# Altium footprint library PCB - POWER - TBA-2-0511.PCBLIB: 1 footprints
Each footprint in its own frame and in the unit in brackets; x right, y up, seen from the top. Pads: shape width x height; smd on the part's side, far side on the other; paste and mask are expansions set on the pad; w line width, h text height; cw(c..) or ccw(c..) is an arc to the next point about the centre after c.
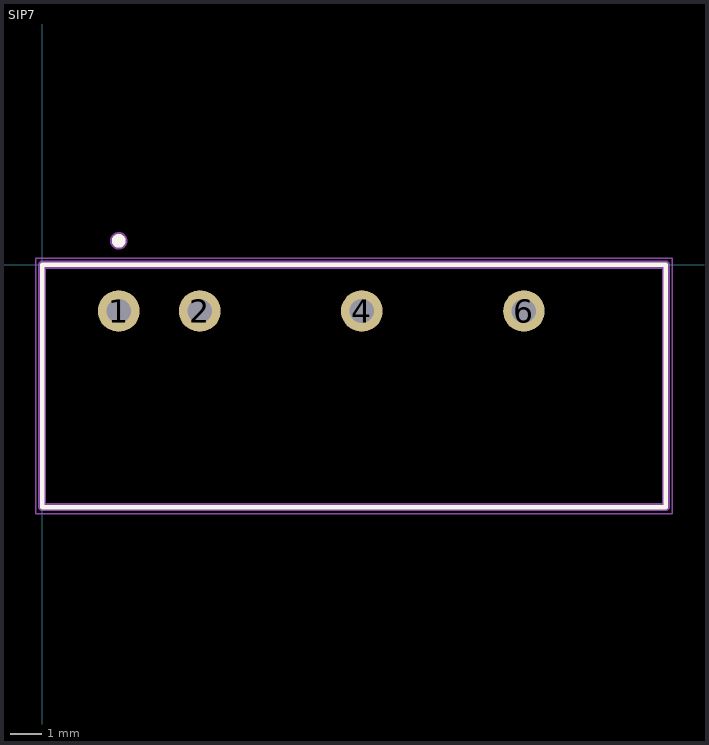
[diagram p0: the footprint, top view; thin cyan lines are the x and y axes]

## SIP7 [mm]
pads (4):
  round 1.303 hole 0.76: 1(2.4,-1.45) 2(4.94,-1.45) 4(10.02,-1.45) 6(15.1,-1.45)
Top Overlay:
  circle w0.254: c2.4,0.75 r0.088
  lines w0.15: 0,-7.6 19.55,-7.6 19.55,0 0,0 0,-7.6
Top Assembly:
  circle w0.15: c2.4,0.75 r0.2
  lines w0.254: 0,-7.6 0,0 19.55,0 19.55,-7.6 0,-7.6
Top Courtyard:
  lines w0.05: -0.2,-7.8 19.75,-7.8 19.75,0.2 -0.2,0.2 -0.2,-7.8
Top Designator:
  text ".Designator" at 4.202,1.2 h1.5
3D body "TBA_2-0511.stp": height 10.08, standoff -3.17, extent 0,-7.6 19.5,0